# Altium integrated library TI Amplifiers and Linear Operational Amplifier Fully Differential Amplifier.IntLib: 262 symbols (part 11 of 11)
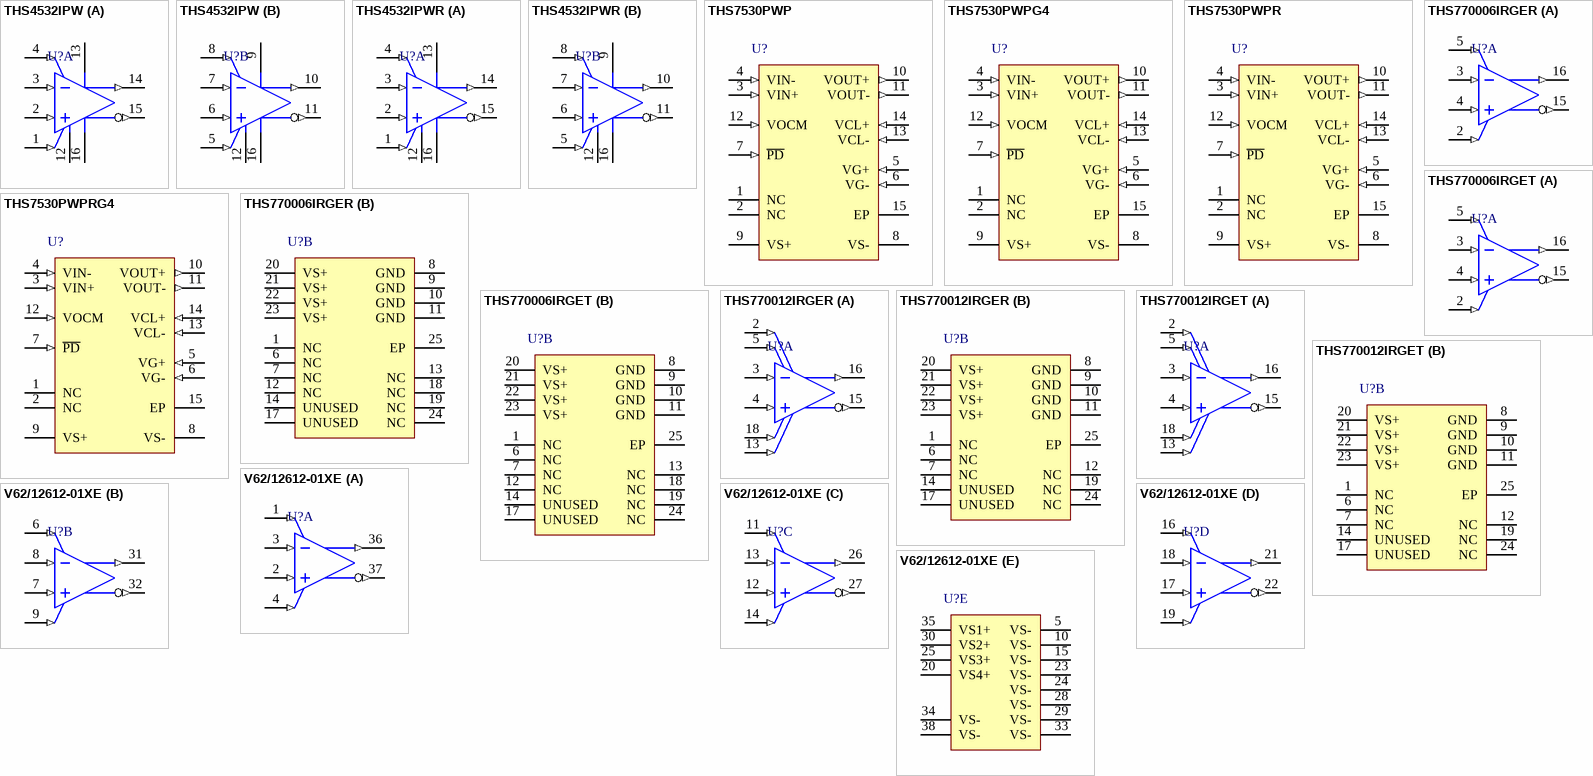
[diagram p17: symbols THS4532IPW to V62/12612-01XE]

## THS7530PWP
designator U?
Fully Differential, Continuously Variable Gain Amplifier, 4.5 to 5.5 V, -40 to 85 degC, 14-pin SOP (PWP14), Green (RoHS & no Sb/Br); Manufacturer: Texas Instruments; PartNumber: THS7530PWP; 2nd Harmonic(dBc): 65; 3rd Harmonic(dBc): 61; @ MHz: 32; Io(Typ)(mA): 37; Iq per channel(Max)(mA): 49; Number of Channels: 1; Slew Rate(Typ)(V/us): 1250; SubFamily: Fully Differential Amplifier; Vn at Flatband(Typ)(nV/rtHz): 1.1; Vs(Max)(V): 5.5; Vs(Min)(V): 4.5; DatasheetVersion: SLOS405C; PackageVersion: 4073225-2/I, 05/2011; PackageReference: PWP14-1830X2055TP; PackageDescription: 14-Pin Plastic Small Outline, Body 4.4 x 5 mm, Pitch 0.65 mm; Supplier 1: Digi-Key; Supplier Part Number 1: 296-15181-5-ND; Supplier 2: Newark; Supplier Part Number 2: 73H4618; Supplier 3: Mouser; Supplier Part Number 3: 595-THS7530PWP; Eco-Plan: Green (RoHS & no Sb/Br); Mounting Technology: Surface Mount; Code_JEDEC: MO-153; ComponentLink1Description: Manufacturer URL; ComponentLink1URL: http://www.ti.com/; ComponentLink2Description: Datasheet; ComponentLink2URL: http://www.ti.com/general/docs/lit/getliterature.tsp?genericPartNumber=THS7530&fileType=pdf; ComponentLink3Description: Package Specification; ComponentLink3URL: http://www.ti.com/litv/pdf/mpds373
footprint TI-PWP14-1830X2055TP_N (SOP, 14-Leads, Body 5x4.4mm, Pitch 0.65mm, Thermal Pad 1.830x2.055mm, IPC Medium Density)
footprint TI-PWP14-1830X2055TP_L (SOP, 14-Leads, Body 5x4.4mm, Pitch 0.65mm, Thermal Pad 1.830x2.055mm, IPC High Density)
footprint TI-PWP14-1830X2055TP_M (SOP, 14-Leads, Body 5x4.4mm, Pitch 0.65mm, Thermal Pad 1.830x2.055mm, IPC Low Density)
pins: 1 NC "No internal connection", 2 NC "No internal connection", 3 VIN+ (in) "Noninverting amplifier input", 4 VIN- (in) "Inverting amplifier input", 5 VG+ (in) "Gain setting positive input", 6 VG- (in) "Gain setting negative input", 7 ~{PD} (in) "Powerdown, P\D\ = logic low puts part into low power mode; P\D\ = logic high or open for normal operation", 8 VS- (power) "Negative amplifier power-supply input", 9 VS+ (power) "Positive amplifier power-supply input", 10 VOUT+ (out) "Noninverted amplifier output", 11 VOUT- (out) "Inverted amplifier output", 12 VOCM (in) "Output common-mode voltage input", 13 VCL- (in) "Output negative clamp voltage input", 14 VCL+ (in) "Output positive clamp voltage input", 15 EP

## THS7530PWPG4
designator U?
Fully Differential, Continuously Variable Gain Amplifier, 4.5 to 5.5 V, -40 to 85 degC, 14-pin SOP (PWP14), Green (RoHS & no Sb/Br); Manufacturer: Texas Instruments; PartNumber: THS7530PWPG4; 2nd Harmonic(dBc): 65; 3rd Harmonic(dBc): 61; @ MHz: 32; Io(Typ)(mA): 37; Iq per channel(Max)(mA): 49; Number of Channels: 1; Slew Rate(Typ)(V/us): 1250; SubFamily: Fully Differential Amplifier; Vn at Flatband(Typ)(nV/rtHz): 1.1; Vs(Max)(V): 5.5; Vs(Min)(V): 4.5; DatasheetVersion: SLOS405C; PackageVersion: 4073225-2/I, 05/2011; PackageReference: PWP14-1830X2055TP; PackageDescription: 14-Pin Plastic Small Outline, Body 4.4 x 5 mm, Pitch 0.65 mm; Supplier 1: Digi-Key; Supplier Part Number 1: THS7530PWPG4-ND; Supplier 2: Mouser; Supplier Part Number 2: 595-THS7530PWPG4; Eco-Plan: Green (RoHS & no Sb/Br); Mounting Technology: Surface Mount; Code_JEDEC: MO-153; ComponentLink1Description: Manufacturer URL; ComponentLink1URL: http://www.ti.com/; ComponentLink2Description: Datasheet; ComponentLink2URL: http://www.ti.com/general/docs/lit/getliterature.tsp?genericPartNumber=THS7530&fileType=pdf; ComponentLink3Description: Package Specification; ComponentLink3URL: http://www.ti.com/litv/pdf/mpds373
footprint TI-PWP14-1830X2055TP_N (SOP, 14-Leads, Body 5x4.4mm, Pitch 0.65mm, Thermal Pad 1.830x2.055mm, IPC Medium Density)
footprint TI-PWP14-1830X2055TP_L (SOP, 14-Leads, Body 5x4.4mm, Pitch 0.65mm, Thermal Pad 1.830x2.055mm, IPC High Density)
footprint TI-PWP14-1830X2055TP_M (SOP, 14-Leads, Body 5x4.4mm, Pitch 0.65mm, Thermal Pad 1.830x2.055mm, IPC Low Density)
pins: 1 NC "No internal connection", 2 NC "No internal connection", 3 VIN+ (in) "Noninverting amplifier input", 4 VIN- (in) "Inverting amplifier input", 5 VG+ (in) "Gain setting positive input", 6 VG- (in) "Gain setting negative input", 7 ~{PD} (in) "Powerdown, P\D\ = logic low puts part into low power mode; P\D\ = logic high or open for normal operation", 8 VS- (power) "Negative amplifier power-supply input", 9 VS+ (power) "Positive amplifier power-supply input", 10 VOUT+ (out) "Noninverted amplifier output", 11 VOUT- (out) "Inverted amplifier output", 12 VOCM (in) "Output common-mode voltage input", 13 VCL- (in) "Output negative clamp voltage input", 14 VCL+ (in) "Output positive clamp voltage input", 15 EP

## THS7530PWPR
designator U?
Fully Differential, Continuously Variable Gain Amplifier, 4.5 to 5.5 V, -40 to 85 degC, 14-pin SOP (PWP14), Green (RoHS & no Sb/Br); Manufacturer: Texas Instruments; PartNumber: THS7530PWPR; 2nd Harmonic(dBc): 65; 3rd Harmonic(dBc): 61; @ MHz: 32; Io(Typ)(mA): 37; Iq per channel(Max)(mA): 49; Number of Channels: 1; Slew Rate(Typ)(V/us): 1250; SubFamily: Fully Differential Amplifier; Vn at Flatband(Typ)(nV/rtHz): 1.1; Vs(Max)(V): 5.5; Vs(Min)(V): 4.5; DatasheetVersion: SLOS405C; PackageVersion: 4073225-2/I, 05/2011; PackageReference: PWP14-1830X2055TP; PackageDescription: 14-Pin Plastic Small Outline, Body 4.4 x 5 mm, Pitch 0.65 mm; Supplier 1: Digi-Key; Supplier Part Number 1: THS7530PWPR-ND; Supplier 2: Mouser; Supplier Part Number 2: 595-THS7530PWPR; Eco-Plan: Green (RoHS & no Sb/Br); Mounting Technology: Surface Mount; Code_JEDEC: MO-153; ComponentLink1Description: Manufacturer URL; ComponentLink1URL: http://www.ti.com/; ComponentLink2Description: Datasheet; ComponentLink2URL: http://www.ti.com/general/docs/lit/getliterature.tsp?genericPartNumber=THS7530&fileType=pdf; ComponentLink3Description: Package Specification; ComponentLink3URL: http://www.ti.com/litv/pdf/mpds373
footprint TI-PWP14-1830X2055TP_N (SOP, 14-Leads, Body 5x4.4mm, Pitch 0.65mm, Thermal Pad 1.830x2.055mm, IPC Medium Density)
footprint TI-PWP14-1830X2055TP_L (SOP, 14-Leads, Body 5x4.4mm, Pitch 0.65mm, Thermal Pad 1.830x2.055mm, IPC High Density)
footprint TI-PWP14-1830X2055TP_M (SOP, 14-Leads, Body 5x4.4mm, Pitch 0.65mm, Thermal Pad 1.830x2.055mm, IPC Low Density)
pins: 1 NC "No internal connection", 2 NC "No internal connection", 3 VIN+ (in) "Noninverting amplifier input", 4 VIN- (in) "Inverting amplifier input", 5 VG+ (in) "Gain setting positive input", 6 VG- (in) "Gain setting negative input", 7 ~{PD} (in) "Powerdown, P\D\ = logic low puts part into low power mode; P\D\ = logic high or open for normal operation", 8 VS- (power) "Negative amplifier power-supply input", 9 VS+ (power) "Positive amplifier power-supply input", 10 VOUT+ (out) "Noninverted amplifier output", 11 VOUT- (out) "Inverted amplifier output", 12 VOCM (in) "Output common-mode voltage input", 13 VCL- (in) "Output negative clamp voltage input", 14 VCL+ (in) "Output positive clamp voltage input", 15 EP

## THS7530PWPRG4
designator U?
Fully Differential, Continuously Variable Gain Amplifier, 4.5 to 5.5 V, -40 to 85 degC, 14-pin SOP (PWP14), Green (RoHS & no Sb/Br); Manufacturer: Texas Instruments; PartNumber: THS7530PWPRG4; 2nd Harmonic(dBc): 65; 3rd Harmonic(dBc): 61; @ MHz: 32; Io(Typ)(mA): 37; Iq per channel(Max)(mA): 49; Number of Channels: 1; Slew Rate(Typ)(V/us): 1250; SubFamily: Fully Differential Amplifier; Vn at Flatband(Typ)(nV/rtHz): 1.1; Vs(Max)(V): 5.5; Vs(Min)(V): 4.5; DatasheetVersion: SLOS405C; PackageVersion: 4073225-2/I, 05/2011; PackageReference: PWP14-1830X2055TP; PackageDescription: 14-Pin Plastic Small Outline, Body 4.4 x 5 mm, Pitch 0.65 mm; Supplier 1: Digi-Key; Supplier Part Number 1: THS7530PWPRG4-ND; Supplier 2: Mouser; Supplier Part Number 2: 595-THS7530PWPRG4; Eco-Plan: Green (RoHS & no Sb/Br); Mounting Technology: Surface Mount; Code_JEDEC: MO-153; ComponentLink1Description: Manufacturer URL; ComponentLink1URL: http://www.ti.com/; ComponentLink2Description: Datasheet; ComponentLink2URL: http://www.ti.com/general/docs/lit/getliterature.tsp?genericPartNumber=THS7530&fileType=pdf; ComponentLink3Description: Package Specification; ComponentLink3URL: http://www.ti.com/litv/pdf/mpds373
footprint TI-PWP14-1830X2055TP_N (SOP, 14-Leads, Body 5x4.4mm, Pitch 0.65mm, Thermal Pad 1.830x2.055mm, IPC Medium Density)
footprint TI-PWP14-1830X2055TP_L (SOP, 14-Leads, Body 5x4.4mm, Pitch 0.65mm, Thermal Pad 1.830x2.055mm, IPC High Density)
footprint TI-PWP14-1830X2055TP_M (SOP, 14-Leads, Body 5x4.4mm, Pitch 0.65mm, Thermal Pad 1.830x2.055mm, IPC Low Density)
pins: 1 NC "No internal connection", 2 NC "No internal connection", 3 VIN+ (in) "Noninverting amplifier input", 4 VIN- (in) "Inverting amplifier input", 5 VG+ (in) "Gain setting positive input", 6 VG- (in) "Gain setting negative input", 7 ~{PD} (in) "Powerdown, P\D\ = logic low puts part into low power mode; P\D\ = logic high or open for normal operation", 8 VS- (power) "Negative amplifier power-supply input", 9 VS+ (power) "Positive amplifier power-supply input", 10 VOUT+ (out) "Noninverted amplifier output", 11 VOUT- (out) "Inverted amplifier output", 12 VOCM (in) "Output common-mode voltage input", 13 VCL- (in) "Output negative clamp voltage input", 14 VCL+ (in) "Output positive clamp voltage input", 15 EP

## THS770006IRGER
designator U?
High-Speed Fully Differential ADC Driver Amplifier with + 6 dB Fixed Gain, 4.75 to 5.25 V, -40 to 85 degC, 24-pin QFN (RGE24), Green (RoHS & no Sb/Br); Manufacturer: Texas Instruments; PartNumber: THS770006IRGER; 2nd Harmonic(dBc): 78; 3rd Harmonic(dBc): 86; @ MHz: 100; BW @ Acl(MHz): 2400; Iq per channel(Max)(mA): 115; Number of Channels: 1; Settling Time (0.1%)(Typ)(ns): 2.2; Slew Rate(Typ)(V/us): 3100; SubFamily: Fully Differential Amplifier; Vio(Max)(mV): 10; Vn at Flatband(Typ)(nV/rtHz): 1.7; Vs(Max)(V): 5.25; Vs(Min)(V): 4.75; DatasheetVersion: SBOS520B; PackageVersion: 4204104/G, 07/2011; PackageReference: RGE24-2450X2450TP; PackageDescription: 24-Pin Plastic Flat Pack, Body 4 x 4 mm, 0.5 mm Pitch; Supplier 1: Digi-Key; Supplier Part Number 1: 296-27747-2-ND; Supplier 2: Digi-Key; Supplier Part Number 2: 296-27747-1-ND; Supplier 3: Digi-Key; Supplier Part Number 3: 296-27747-6-ND; Supplier 4: Mouser; Supplier Part Number 4: 595-THS770006IRGER; Eco-Plan: Green (RoHS & no Sb/Br); Mounting Technology: Surface Mount; Code_JEDEC: MO-220; ComponentLink1Description: Manufacturer URL; ComponentLink1URL: http://www.ti.com/; ComponentLink2Description: Datasheet; ComponentLink2URL: http://www.ti.com/general/docs/lit/getliterature.tsp?genericPartNumber=THS770006&fileType=pdf; ComponentLink3Description: Package Specification; ComponentLink3URL: http://www.ti.com/litv/pdf/mpqf124f
footprint TI-RGE24-2450X2450TP_V (QFN, 24-Leads, Body 4x4mm, Pitch 0.5mm, Thermal Pad 2.45x2.45mm)
part A pins: 2 PD (in) "Power down. High = low power (sleep) mode. Low = active.", 3 VIN- (in) "Inverting input pin", 4 VIN+ (in) "Noninverting input pin", 5 VOCM (in) "Output common-mode voltage control input pin", 15 VOUT- (out) "Inverting output pin", 16 VOUT+ (out) "Inverting output pin"
part B pins: 1 NC "No internal connection", 6 NC "No internal connection", 7 NC "No internal connection", 8 GND (power) "Ground. Must be connected to thermal pad.", 9 GND (power) "Ground. Must be connected to thermal pad.", 10 GND (power) "Ground. Must be connected to thermal pad.", 11 GND (power) "Ground. Must be connected to thermal pad.", 12 NC "No internal connection", 13 NC, 14 UNUSED "Bonded to die, but not used. Tie to GND.", 17 UNUSED "Bonded to die, but not used. Tie to GND.", 18 NC, 19 NC "No internal connection", 20 VS+ (power) "Power supply pins, +5V nominal", 21 VS+ (power) "Power supply pins, +5V nominal", 22 VS+ (power) "Power supply pins, +5V nominal", 23 VS+ (power) "Power supply pins, +5V nominal", 24 NC "No internal connection", 25 EP (power) "Thermal pad on bottom of device is used for heat dissipation and must be tied to GND"

## THS770006IRGET
designator U?
High-Speed Fully Differential ADC Driver Amplifier with + 6 dB Fixed Gain, 4.75 to 5.25 V, -40 to 85 degC, 24-pin QFN (RGE24), Green (RoHS & no Sb/Br); Manufacturer: Texas Instruments; PartNumber: THS770006IRGET; 2nd Harmonic(dBc): 78; 3rd Harmonic(dBc): 86; @ MHz: 100; BW @ Acl(MHz): 2400; Iq per channel(Max)(mA): 115; Number of Channels: 1; Settling Time (0.1%)(Typ)(ns): 2.2; Slew Rate(Typ)(V/us): 3100; SubFamily: Fully Differential Amplifier; Vio(Max)(mV): 10; Vn at Flatband(Typ)(nV/rtHz): 1.7; Vs(Max)(V): 5.25; Vs(Min)(V): 4.75; DatasheetVersion: SBOS520B; PackageVersion: 4204104/G, 07/2011; PackageReference: RGE24-2450X2450TP; PackageDescription: 24-Pin Plastic Flat Pack, Body 4 x 4 mm, 0.5 mm Pitch; Supplier 1: Digi-Key; Supplier Part Number 1: 296-27821-2-ND; Supplier 2: Digi-Key; Supplier Part Number 2: 296-27821-1-ND; Supplier 3: Digi-Key; Supplier Part Number 3: 296-27821-6-ND; Supplier 4: Farnell; Supplier Part Number 4: 1862566; Supplier 5: Newark; Supplier Part Number 5: 91R0767; Supplier 6: Mouser; Supplier Part Number 6: 595-THS770006IRGET; Eco-Plan: Green (RoHS & no Sb/Br); Mounting Technology: Surface Mount; Code_JEDEC: MO-220; ComponentLink1Description: Manufacturer URL; ComponentLink1URL: http://www.ti.com/; ComponentLink2Description: Datasheet; ComponentLink2URL: http://www.ti.com/general/docs/lit/getliterature.tsp?genericPartNumber=THS770006&fileType=pdf; ComponentLink3Description: Package Specification; ComponentLink3URL: http://www.ti.com/litv/pdf/mpqf124f
footprint TI-RGE24-2450X2450TP_V (QFN, 24-Leads, Body 4x4mm, Pitch 0.5mm, Thermal Pad 2.45x2.45mm)
part A pins: 2 PD (in) "Power down. High = low power (sleep) mode. Low = active.", 3 VIN- (in) "Inverting input pin", 4 VIN+ (in) "Noninverting input pin", 5 VOCM (in) "Output common-mode voltage control input pin", 15 VOUT- (out) "Inverting output pin", 16 VOUT+ (out) "Inverting output pin"
part B pins: 1 NC "No internal connection", 6 NC "No internal connection", 7 NC "No internal connection", 8 GND (power) "Ground. Must be connected to thermal pad.", 9 GND (power) "Ground. Must be connected to thermal pad.", 10 GND (power) "Ground. Must be connected to thermal pad.", 11 GND (power) "Ground. Must be connected to thermal pad.", 12 NC "No internal connection", 13 NC, 14 UNUSED "Bonded to die, but not used. Tie to GND.", 17 UNUSED "Bonded to die, but not used. Tie to GND.", 18 NC, 19 NC "No internal connection", 20 VS+ (power) "Power supply pins, +5V nominal", 21 VS+ (power) "Power supply pins, +5V nominal", 22 VS+ (power) "Power supply pins, +5V nominal", 23 VS+ (power) "Power supply pins, +5V nominal", 24 NC "No internal connection", 25 EP (power) "Thermal pad on bottom of device is used for heat dissipation and must be tied to GND"

## THS770012IRGER
designator U?
High-Speed Fully Differential ADC Driver Amplifier with 10 to 13 dB Selectable Gain, 4.75 to 5.25 V, -40 to 85 degC, 24-pin QFN (RGE24), Green (RoHS & no Sb/Br); Manufacturer: Texas Instruments; PartNumber: THS770012IRGER; 2nd Harmonic(dBc): 73; 3rd Harmonic(dBc): 84; @ MHz: 100; BW @ Acl(MHz): 900; Iq per channel(Max)(mA): 115; Number of Channels: 1; Settling Time (0.1%)(Typ)(ns): 2.2; Slew Rate(Typ)(V/us): 3300; SubFamily: Fully Differential Amplifier; Vn at Flatband(Typ)(nV/rtHz): 1.5; Vs(Max)(V): 5.25; Vs(Min)(V): 4.75; DatasheetVersion: SLOS669C; PackageVersion: 4204104/G, 07/2011; PackageReference: RGE24-2450X2450TP; PackageDescription: 24-Pin Plastic Flat Pack, Body 4 x 4 mm, 0.5 mm Pitch; Supplier 1: Digi-Key; Supplier Part Number 1: THS770012IRGER-ND; Supplier 2: Mouser; Supplier Part Number 2: 595-THS770012IRGER; Eco-Plan: Green (RoHS & no Sb/Br); Mounting Technology: Surface Mount; Code_JEDEC: MO-220; ComponentLink1Description: Manufacturer URL; ComponentLink1URL: http://www.ti.com/; ComponentLink2Description: Datasheet; ComponentLink2URL: http://www.ti.com/general/docs/lit/getliterature.tsp?genericPartNumber=THS770012&fileType=pdf; ComponentLink3Description: Package Specification; ComponentLink3URL: http://www.ti.com/litv/pdf/mpqf124f
footprint TI-RGE24-2450X2450TP_V (QFN, 24-Leads, Body 4x4mm, Pitch 0.5mm, Thermal Pad 2.45x2.45mm)
part A pins: 2 PD (in) "Power down. High = low power (sleep) mode. Low = active.", 3 VIN- (in) "Inverting input pin", 4 VIN+ (in) "Noninverting input pin", 5 VOCM (in) "Output common-mode voltage control input pin", 13 GS- (in) "Gain-setting connection for inverting output", 15 VOUT- (out) "Inverting output pin", 16 VOUT+ (out) "Inverting output pin", 18 GS+ (in) "Gain-setting connection for non-inverting output"
part B pins: 1 NC "No internal connection", 6 NC "No internal connection", 7 NC "No internal connection", 8 GND (power) "Ground. Must be connected to thermal pad.", 9 GND (power) "Ground. Must be connected to thermal pad.", 10 GND (power) "Ground. Must be connected to thermal pad.", 11 GND (power) "Ground. Must be connected to thermal pad.", 12 NC "No internal connection", 14 UNUSED "Bonded to die, but not used. Tie to GND.", 17 UNUSED "Bonded to die, but not used. Tie to GND.", 19 NC "No internal connection", 20 VS+ (power) "Power supply pins, +5V nominal", 21 VS+ (power) "Power supply pins, +5V nominal", 22 VS+ (power) "Power supply pins, +5V nominal", 23 VS+ (power) "Power supply pins, +5V nominal", 24 NC "No internal connection", 25 EP (power) "Thermal pad on bottom of device is used for heat dissipation and must be tied to GND"

## THS770012IRGET
designator U?
High-Speed Fully Differential ADC Driver Amplifier with 10 to 13 dB Selectable Gain, 4.75 to 5.25 V, -40 to 85 degC, 24-pin QFN (RGE24), Green (RoHS & no Sb/Br); Manufacturer: Texas Instruments; PartNumber: THS770012IRGET; 2nd Harmonic(dBc): 73; 3rd Harmonic(dBc): 84; @ MHz: 100; BW @ Acl(MHz): 900; Iq per channel(Max)(mA): 115; Number of Channels: 1; Settling Time (0.1%)(Typ)(ns): 2.2; Slew Rate(Typ)(V/us): 3300; SubFamily: Fully Differential Amplifier; Vn at Flatband(Typ)(nV/rtHz): 1.5; Vs(Max)(V): 5.25; Vs(Min)(V): 4.75; DatasheetVersion: SLOS669C; PackageVersion: 4204104/G, 07/2011; PackageReference: RGE24-2450X2450TP; PackageDescription: 24-Pin Plastic Flat Pack, Body 4 x 4 mm, 0.5 mm Pitch; Supplier 1: Digi-Key; Supplier Part Number 1: 296-28053-2-ND; Supplier 2: Digi-Key; Supplier Part Number 2: 296-28053-1-ND; Supplier 3: Digi-Key; Supplier Part Number 3: 296-28053-6-ND; Supplier 4: Farnell; Supplier Part Number 4: 1862567; Supplier 5: Newark; Supplier Part Number 5: 21T4295; Supplier 6: Mouser; Supplier Part Number 6: 595-THS770012IRGET; Eco-Plan: Green (RoHS & no Sb/Br); Mounting Technology: Surface Mount; Code_JEDEC: MO-220; ComponentLink1Description: Manufacturer URL; ComponentLink1URL: http://www.ti.com/; ComponentLink2Description: Datasheet; ComponentLink2URL: http://www.ti.com/general/docs/lit/getliterature.tsp?genericPartNumber=THS770012&fileType=pdf; ComponentLink3Description: Package Specification; ComponentLink3URL: http://www.ti.com/litv/pdf/mpqf124f
footprint TI-RGE24-2450X2450TP_V (QFN, 24-Leads, Body 4x4mm, Pitch 0.5mm, Thermal Pad 2.45x2.45mm)
part A pins: 2 PD (in) "Power down. High = low power (sleep) mode. Low = active.", 3 VIN- (in) "Inverting input pin", 4 VIN+ (in) "Noninverting input pin", 5 VOCM (in) "Output common-mode voltage control input pin", 13 GS- (in) "Gain-setting connection for inverting output", 15 VOUT- (out) "Inverting output pin", 16 VOUT+ (out) "Inverting output pin", 18 GS+ (in) "Gain-setting connection for non-inverting output"
part B pins: 1 NC "No internal connection", 6 NC "No internal connection", 7 NC "No internal connection", 8 GND (power) "Ground. Must be connected to thermal pad.", 9 GND (power) "Ground. Must be connected to thermal pad.", 10 GND (power) "Ground. Must be connected to thermal pad.", 11 GND (power) "Ground. Must be connected to thermal pad.", 12 NC "No internal connection", 14 UNUSED "Bonded to die, but not used. Tie to GND.", 17 UNUSED "Bonded to die, but not used. Tie to GND.", 19 NC "No internal connection", 20 VS+ (power) "Power supply pins, +5V nominal", 21 VS+ (power) "Power supply pins, +5V nominal", 22 VS+ (power) "Power supply pins, +5V nominal", 23 VS+ (power) "Power supply pins, +5V nominal", 24 NC "No internal connection", 25 EP (power) "Thermal pad on bottom of device is used for heat dissipation and must be tied to GND"

## V62/12612-01XE
designator U?
Enhanced Product Very Low Power Quad Channel Rail-to-Rail Output Fully Differential Amplifier, 2.5 to 5.5 V, -55 to 125 degC, 38-Pin SOP (DBT38), Green (Rohs & No Sb/Br); Manufacturer: Texas Instruments; PartNumber: V62/12612-01XE; CMRR(Min)(dB): 73.8; GBW(Typ)(MHz): 93; Iq per channel(Max)(mA): 1.25; Number of Channels: 4; Offset Drift(Typ)(uV/C): 45; Packing: LARGE T&R; Rating: HiRel Enhanced Product; Slew Rate(Typ)(V/us): 490; SubFamily: Fully Differential Amplifier, High Speed Amplifier (>=50MHz); Total Supply Voltage(Max)(+5V is 5, +/-5V is 10): 5.5; Total Supply Voltage(Min)(+5V is 5, +/-5V is 10): 2.5; Vio (25C)(Max)(mV): 7; DatasheetVersion: SBOS609; PackageVersion: 4073252-6/I, 03/2011; PackageReference: DBT38; PackageDescription: 38-Pin Plastic Small Outline, Body 9.7 x 4.4 mm, Pitch 0.5 mm; Supplier 1: Mouser; Supplier Part Number 1: 595-V62/12612-01XE; Eco-Plan: Green (RoHS & no Sb/Br); Mounting Technology: Surface Mount; Code_JEDEC: MO-153; ComponentLink1Description: Manufacturer URL; ComponentLink1URL: http://www.ti.com/; ComponentLink2Description: Datasheet; ComponentLink2URL: http://www.ti.com/lit/ds/symlink/ths4524-ep.pdf; ComponentLink3Description: Package Specification; ComponentLink3URL: http://www.ti.com/litv/pdf/mpds368
footprint TI-DBT38_N (SOP, 38-Leads, Body 9.7x4.4mm, Pitch 0.5mm, IPC Medium Density)
footprint TI-DBT38_L (SOP, 38-Leads, Body 9.7x4.4mm, Pitch 0.5mm, IPC High Density)
footprint TI-DBT38_M (SOP, 38-Leads, Body 9.7x4.4mm, Pitch 0.5mm, IPC Low Density)
part A pins: 1 ~{PD}1 (in) "Power down 1. P\D\ = logic low puts channel into low-power mode. P\D\ = logic high or open for normal operation.", 2 VIN1+ (in) "Noninverting amplifier 1 input", 3 VIN1- (in) "Inverting amplifier 1 input", 4 VOCM1 (in) "Common-mode voltage input 1", 36 VOUT1+ (out) "Noninverting amplifier 1 output", 37 VOUT1- (out) "Inverting amplifier 1 output"
part B pins: 6 ~{PD}2 (in) "Power down 2. P\D\ = logic low puts channel into low-power mode. P\D\ = logic high or open for normal operation.", 7 VIN2+ (in) "Noninverting amplifier 2 input", 8 VIN2- (in) "Inverting amplifier 2 input", 9 VOCM2 (in) "Common-mode voltage input 2", 31 VOUT2+ (out) "Noninverting amplifier 2 output", 32 VOUT2- (out) "Inverting amplifier 2 output"
part C pins: 11 ~{PD}3 (in) "Power down 3. P\D\ = logic low puts channel into low-power mode. P\D\ = logic high or open for normal operation.", 12 VIN3+ (in) "Noninverting amplifier 3 input", 13 VIN3- (in) "Inverting amplifier 3 input", 14 VOCM3 (in) "Common-mode voltage input 3", 26 VOUT3+ (out) "Noninverting amplifier3 output", 27 VOUT3- (out) "Inverting amplifier3 output"
part D pins: 16 ~{PD}4 (in) "Power down 4. P\D\ = logic low puts channel into low-power mode. P\D\ = logic high or open for normal operation.", 17 VIN4+ (in) "Noninverting amplifier 4 input", 18 VIN4- (in) "Inverting amplifier 4 input", 19 VOCM4 (in) "Common-mode voltage input 4", 21 VOUT4+ (out) "Noninverting amplifier 4 output", 22 VOUT4- (out) "Inverting amplifier 4 output"
part E pins: 5 VS- (power) "Negative power-supply input. Note that VS- is tied together on multi-channel devices.", 10 VS- (power) "Negative power-supply input. Note that VS- is tied together on multi-channel devices.", 15 VS- (power) "Negative power-supply input. Note that VS- is tied together on multi-channel devices.", 20 VS4+ (power) "Amplifier 4 positive power-supply input", 23 VS- (power) "Negative power-supply input. Note that VS- is tied together on multi-channel devices.", 24 VS- (power) "Negative power-supply input. Note that VS- is tied together on multi-channel devices.", 25 VS3+ (power) "Amplifier 3 positive power-supply input", 28 VS- (power) "Negative power-supply input. Note that VS- is tied together on multi-channel devices.", 29 VS- (power) "Negative power-supply input. Note that VS- is tied together on multi-channel devices.", 30 VS2+ (power) "Amplifier 2 positive power-supply input", 33 VS- (power) "Negative power-supply input. Note that VS- is tied together on multi-channel devices.", 34 VS- (power) "Negative power-supply input. Note that VS- is tied together on multi-channel devices.", 35 VS1+ (power) "Amplifier 1 positive power-supply input", 38 VS- (power) "Negative power-supply input. Note that VS- is tied together on multi-channel devices."